# Altium footprint library FBGA-289.PcbLib: 1 footprints
Each footprint in its own frame and in the unit in brackets; x right, y up, seen from the top. Pads: shape width x height; smd on the part's side, far side on the other; paste and mask are expansions set on the pad; w line width, h text height; cw(c..) or ccw(c..) is an arc to the next point about the centre after c.
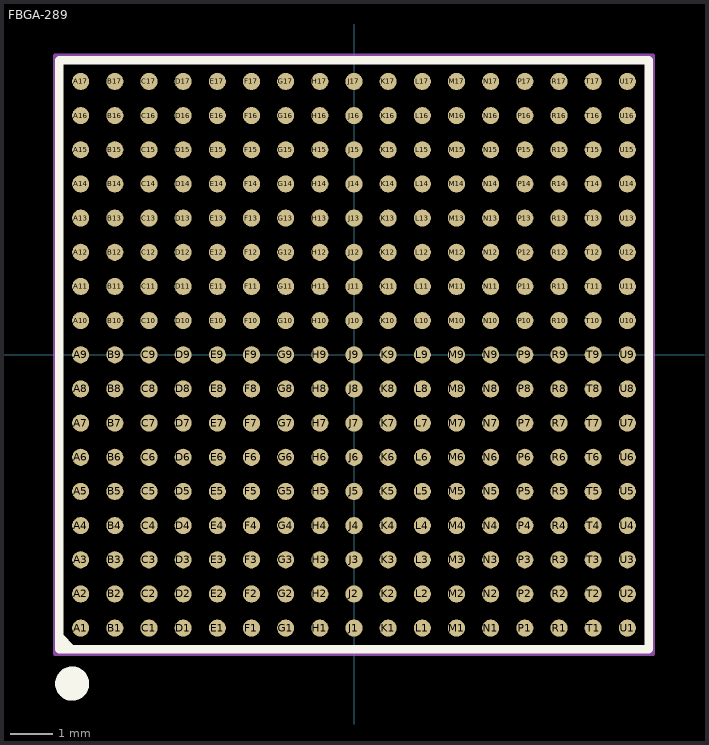
[diagram p0: the footprint, top view; thin cyan lines are the x and y axes]

## FBGA-289 [mm]
pads (289):
  round 0.4 smd mask+0.051: A1(-6.4,-6.4) A2(-6.4,-5.6) A3(-6.4,-4.8) A4(-6.4,-4) A5(-6.4,-3.2) A6(-6.4,-2.4) A7(-6.4,-1.6) A8(-6.4,-0.8) A9(-6.4,0) A10(-6.4,0.8) A11(-6.4,1.6) A12(-6.4,2.4) A13(-6.4,3.2) A14(-6.4,4) A15(-6.4,4.8) A16(-6.4,5.6) A17(-6.4,6.4) B1(-5.6,-6.4) B2(-5.6,-5.6) B3(-5.6,-4.8) B4(-5.6,-4) B5(-5.6,-3.2) B6(-5.6,-2.4) B7(-5.6,-1.6) B8(-5.6,-0.8) B9(-5.6,0) B10(-5.6,0.8) B11(-5.6,1.6) B12(-5.6,2.4) B13(-5.6,3.2) B14(-5.6,4) B15(-5.6,4.8) B16(-5.6,5.6) B17(-5.6,6.4) C1(-4.8,-6.4) C2(-4.8,-5.6) C3(-4.8,-4.8) C4(-4.8,-4) C5(-4.8,-3.2) C6(-4.8,-2.4) C7(-4.8,-1.6) C8(-4.8,-0.8) C9(-4.8,0) C10(-4.8,0.8) C11(-4.8,1.6) C12(-4.8,2.4) C13(-4.8,3.2) C14(-4.8,4) C15(-4.8,4.8) C16(-4.8,5.6) C17(-4.8,6.4) D1(-4,-6.4) D2(-4,-5.6) D3(-4,-4.8) D4(-4,-4) D5(-4,-3.2) D6(-4,-2.4) D7(-4,-1.6) D8(-4,-0.8) D9(-4,0) D10(-4,0.8) D11(-4,1.6) D12(-4,2.4) D13(-4,3.2) D14(-4,4) D15(-4,4.8) D16(-4,5.6) D17(-4,6.4) E1(-3.2,-6.4) E2(-3.2,-5.6) E3(-3.2,-4.8) E4(-3.2,-4) E5(-3.2,-3.2) E6(-3.2,-2.4) E7(-3.2,-1.6) E8(-3.2,-0.8) E9(-3.2,0) E10(-3.2,0.8) E11(-3.2,1.6) E12(-3.2,2.4) E13(-3.2,3.2) E14(-3.2,4) E15(-3.2,4.8) E16(-3.2,5.6) E17(-3.2,6.4) F1(-2.4,-6.4) F2(-2.4,-5.6) F3(-2.4,-4.8) F4(-2.4,-4) F5(-2.4,-3.2) F6(-2.4,-2.4) F7(-2.4,-1.6) F8(-2.4,-0.8) F9(-2.4,0) F10(-2.4,0.8) F11(-2.4,1.6) F12(-2.4,2.4) F13(-2.4,3.2) F14(-2.4,4) F15(-2.4,4.8) F16(-2.4,5.6) F17(-2.4,6.4) G1(-1.6,-6.4) G2(-1.6,-5.6) G3(-1.6,-4.8) G4(-1.6,-4) G5(-1.6,-3.2) G6(-1.6,-2.4) G7(-1.6,-1.6) G8(-1.6,-0.8) G9(-1.6,0) G10(-1.6,0.8) G11(-1.6,1.6) G12(-1.6,2.4) G13(-1.6,3.2) G14(-1.6,4) G15(-1.6,4.8) G16(-1.6,5.6) G17(-1.6,6.4) H1(-0.8,-6.4) H2(-0.8,-5.6) H3(-0.8,-4.8) H4(-0.8,-4) H5(-0.8,-3.2) H6(-0.8,-2.4) H7(-0.8,-1.6) H8(-0.8,-0.8) H9(-0.8,0) H10(-0.8,0.8) H11(-0.8,1.6) H12(-0.8,2.4) H13(-0.8,3.2) H14(-0.8,4) H15(-0.8,4.8) H16(-0.8,5.6) H17(-0.8,6.4) J1(0,-6.4) J2(0,-5.6) J3(0,-4.8) J4(0,-4) J5(0,-3.2) J6(0,-2.4) J7(0,-1.6) J8(0,-0.8) J9(0,0) J10(0,0.8) J11(0,1.6) J12(0,2.4) J13(0,3.2) J14(0,4) J15(0,4.8) J16(0,5.6) J17(0,6.4) K1(0.8,-6.4) K2(0.8,-5.6) K3(0.8,-4.8) K4(0.8,-4) K5(0.8,-3.2) K6(0.8,-2.4) K7(0.8,-1.6) K8(0.8,-0.8) K9(0.8,0) K10(0.8,0.8) K11(0.8,1.6) K12(0.8,2.4) K13(0.8,3.2) K14(0.8,4) K15(0.8,4.8) K16(0.8,5.6) K17(0.8,6.4) L1(1.6,-6.4) L2(1.6,-5.6) L3(1.6,-4.8) L4(1.6,-4) L5(1.6,-3.2) L6(1.6,-2.4) L7(1.6,-1.6) L8(1.6,-0.8) L9(1.6,0) L10(1.6,0.8) L11(1.6,1.6) L12(1.6,2.4) L13(1.6,3.2) L14(1.6,4) L15(1.6,4.8) L16(1.6,5.6) L17(1.6,6.4) M1(2.4,-6.4) M2(2.4,-5.6) M3(2.4,-4.8) M4(2.4,-4) M5(2.4,-3.2) M6(2.4,-2.4) M7(2.4,-1.6) M8(2.4,-0.8) M9(2.4,0) M10(2.4,0.8) M11(2.4,1.6) M12(2.4,2.4) M13(2.4,3.2) M14(2.4,4) M15(2.4,4.8) M16(2.4,5.6) M17(2.4,6.4) N1(3.2,-6.4) N2(3.2,-5.6) N3(3.2,-4.8) N4(3.2,-4) N5(3.2,-3.2) N6(3.2,-2.4) N7(3.2,-1.6) N8(3.2,-0.8) N9(3.2,0) N10(3.2,0.8) N11(3.2,1.6) N12(3.2,2.4) N13(3.2,3.2) N14(3.2,4) N15(3.2,4.8) N16(3.2,5.6) N17(3.2,6.4) P1(4,-6.4) P2(4,-5.6) P3(4,-4.8) P4(4,-4) P5(4,-3.2) P6(4,-2.4) P7(4,-1.6) P8(4,-0.8) P9(4,0) P10(4,0.8) P11(4,1.6) P12(4,2.4) P13(4,3.2) P14(4,4) P15(4,4.8) P16(4,5.6) P17(4,6.4) R1(4.8,-6.4) R2(4.8,-5.6) R3(4.8,-4.8) R4(4.8,-4) R5(4.8,-3.2) R6(4.8,-2.4) R7(4.8,-1.6) R8(4.8,-0.8) R9(4.8,0) R10(4.8,0.8) R11(4.8,1.6) R12(4.8,2.4) R13(4.8,3.2) R14(4.8,4) R15(4.8,4.8) R16(4.8,5.6) R17(4.8,6.4) T1(5.6,-6.4) T2(5.6,-5.6) T3(5.6,-4.8) T4(5.6,-4) T5(5.6,-3.2) T6(5.6,-2.4) T7(5.6,-1.6) T8(5.6,-0.8) T9(5.6,0) T10(5.6,0.8) T11(5.6,1.6) T12(5.6,2.4) T13(5.6,3.2) T14(5.6,4) T15(5.6,4.8) T16(5.6,5.6) T17(5.6,6.4) U1(6.4,-6.4) U2(6.4,-5.6) U3(6.4,-4.8) U4(6.4,-4) U5(6.4,-3.2) U6(6.4,-2.4) U7(6.4,-1.6) U8(6.4,-0.8) U9(6.4,0) U10(6.4,0.8) U11(6.4,1.6) U12(6.4,2.4) U13(6.4,3.2) U14(6.4,4) U15(6.4,4.8) U16(6.4,5.6) U17(6.4,6.4)
Top Overlay:
  circle w0.4: c-6.6,-7.7 r0.2
  lines w0.2: -6.9,-6.6 -6.6,-6.9 ; -6.9,-6.9 6.9,-6.9 6.9,6.9 -6.9,6.9 -6.9,-6.9
Mechanical 13:
  lines w0.1: -7,-7 7,-7 7,7 -7,7 -7,-7